# Altium footprint library PBD2-20S.PcbLib: 1 footprints
Each footprint in its own frame and in the unit in brackets; x right, y up, seen from the top. Pads: shape width x height; smd on the part's side, far side on the other; paste and mask are expansions set on the pad; w line width, h text height; cw(c..) or ccw(c..) is an arc to the next point about the centre after c.
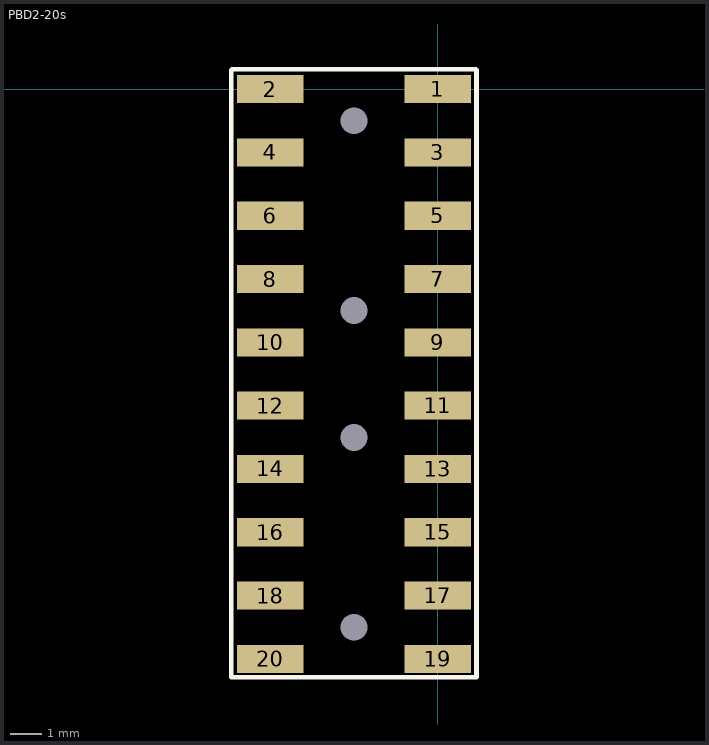
[diagram p0: the footprint, top view; thin cyan lines are the x and y axes]

## PBD2-20s [mm]
pads (24):
  round 0 hole 0.85: 0(-2.65,-17) 0(-2.65,-11) 0(-2.65,-7) 0(-2.65,-1)
  rect 2.1x0.89 smd: 1(0,0) 2(-5.3,0) 3(0,-2) 4(-5.3,-2) 5(0,-4) 6(-5.3,-4) 7(0,-6) 8(-5.3,-6) 9(0,-8) 10(-5.3,-8) 11(0,-10) 12(-5.3,-10) 13(0,-12) 14(-5.3,-12) 15(0,-14) 16(-5.3,-14) 17(0,-16) 18(-5.3,-16) 19(0,-18) 20(-5.3,-18)
Top Overlay:
  lines w0.15: 1.2,0.625 -6.5,0.625 -6.525,0.6 -6.508,0.583 -6.524,0.568 -6.524,-18.574 1.221,-18.574 ; 1.223,-18.572 1.223,0.598 1.225,0.6